# Altium schematic symbol library Mech,Bracket,L,90Deg,4-40.Schlib: 1 symbol
Pins are listed as number, name and electrical type; pins without a type are passive.

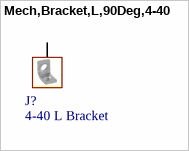
[diagram p0: symbol Mech,Bracket,L,90Deg,4-40]

## Mech,Bracket,L,90Deg,4-40
designator J?, comment 4-40 L Bracket
Mounting Bracket Short L 0.130" (3.30mm), 4-40 Steel, Zinc Plated
pins: 0 PIN